# Altium footprint library ESP.PcbLib: 1 footprints
Each footprint in its own frame and in the unit in brackets; x right, y up, seen from the top. Pads: shape width x height; smd on the part's side, far side on the other; paste and mask are expansions set on the pad; w line width, h text height; cw(c..) or ccw(c..) is an arc to the next point about the centre after c.
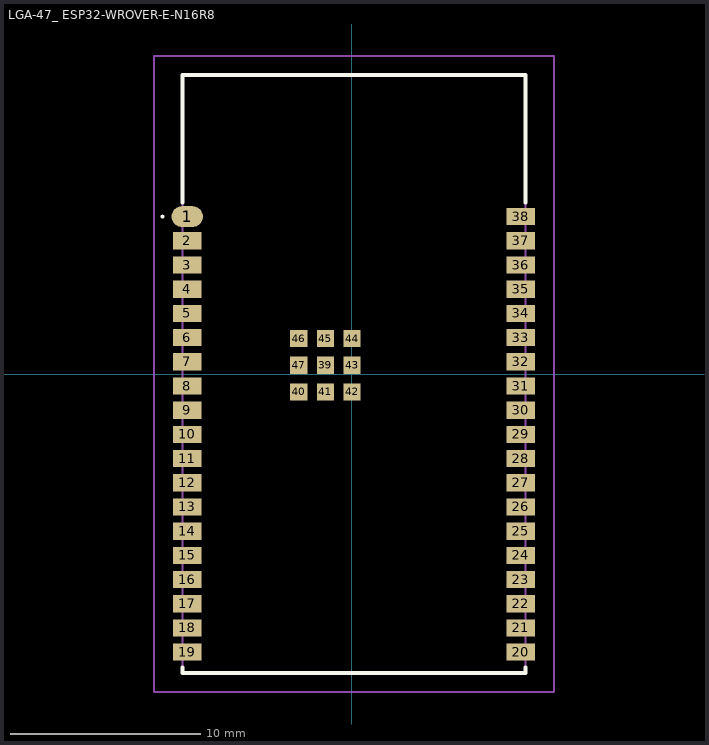
[diagram p0: the footprint, top view; thin cyan lines are the x and y axes]

## LGA-47_ ESP32-WROVER-E-N16R8 [mm] "200MHz clock , output P = 20 dBm, Ub =3V-3.6V, BLE + bluetooth 4.2"
pads (47):
  oval 1.651x1.092 smd: 1(-8.623,8.26)
  rect 1.5x0.9 smd: 2(-8.623,6.99) 3(-8.623,5.72) 4(-8.623,4.45) 5(-8.623,3.18) 6(-8.623,1.91) 7(-8.623,0.64) 8(-8.623,-0.63) 9(-8.623,-1.9) 10(-8.623,-3.17) 11(-8.623,-4.44) 12(-8.623,-5.71) 13(-8.623,-6.98) 14(-8.623,-8.25) 15(-8.623,-9.52) 16(-8.623,-10.79) 17(-8.623,-12.06) 18(-8.623,-13.33) 19(-8.623,-14.6) 20(8.877,-14.6) 21(8.877,-13.33) 22(8.877,-12.06) 23(8.877,-10.79) 24(8.877,-9.52) 25(8.877,-8.25) 26(8.877,-6.98) 27(8.877,-5.71) 28(8.877,-4.44) 29(8.877,-3.17) 30(8.877,-1.9) 31(8.877,-0.63) 32(8.877,0.64) 33(8.877,1.91) 34(8.877,3.18) 35(8.877,4.45) 36(8.877,5.72) 37(8.877,6.99) 38(8.877,8.26)
  rect 0.9x0.9 smd: 39(-1.373,0.46) 40(-2.773,-0.94) 41(-1.373,-0.94) 42(0.027,-0.94) 43(0.027,0.46) 44(0.027,1.86) 45(-1.373,1.86) 46(-2.773,1.86) 47(-2.773,0.46)
Top Overlay:
  lines w0.1: -9.973,8.26 ccw(c-9.923,8.26) -9.873,8.26 ccw(c-9.923,8.26) -9.973,8.26
  lines w0.2: -8.873,-15.4 -8.873,-15.7 9.127,-15.7 9.127,-15.4 ; -8.873,9 -8.873,15.7 9.127,15.7 9.127,9
Mechanical 15:
  lines w0.1: -8.873,-15.7 -8.873,15.7 9.127,15.7 9.127,-15.7 -8.873,-15.7
Mechanical 20:
  lines w0.1: -10.373,-16.7 -10.373,16.7 10.627,16.7 10.627,-16.7 -10.373,-16.7
3D body "ESP32-WROVER-E-N16R8.STEP": height 3.45, standoff 0, extent -8.873,-15.7 9.127,15.7